# EAGLE library part ULN2803ADW (library m1dst)
Darlington transistor array
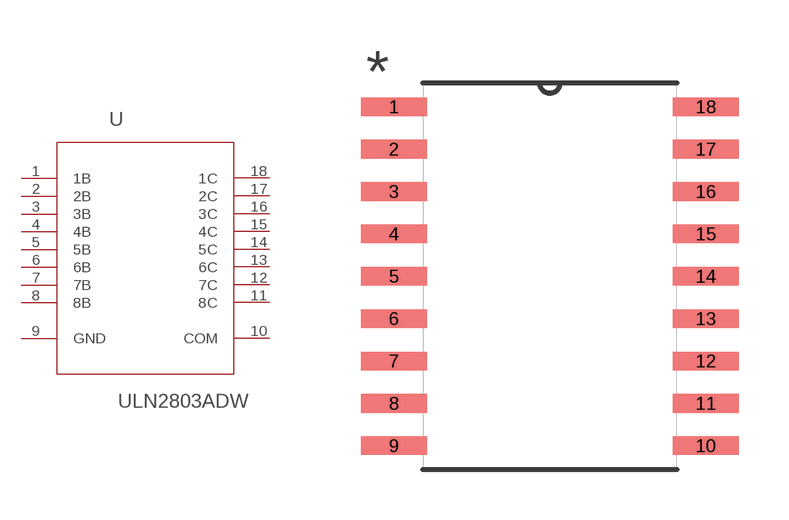
[diagram p8: symbol with the pads of SOIC127P1030X265-18N; footprint SOIC127P1030X265-18N]

Designator prefix U

## ULN2803ADW (MPN: ULN2803ADW; OC_FARNELL: 1652419; OC_NEWARK: 69K0711; PACKAGE: SOIC-18; SUPPLIER: TEXAS INSTRUMENTS)  [SOIC127P1030X265-18N]
1  1B  in
2  2B  in
3  3B  in
4  4B  in
5  5B  in
6  6B  in
7  7B  in
8  8B  in
9  GND  pas
10  COM  out
11  8C  out
12  7C  out
13  6C  out
14  5C  out
15  4C  out
16  3C  out
17  2C  out
18  1C  out

## Footprint SOIC127P1030X265-18N (pad centres in mm)
smd 1.981 x 0.559: 1 -4.674,5.08; 2 -4.674,3.81; 3 -4.674,2.54; 4 -4.674,1.27; 5 -4.674,0; 6 -4.674,-1.27; 7 -4.674,-2.54; 8 -4.674,-3.81; 9 -4.674,-5.08; 10 4.674,-5.08; 11 4.674,-3.81; 12 4.674,-2.54; 13 4.674,-1.27; 14 4.674,0; 15 4.674,1.27; 16 4.674,2.54; 17 4.674,3.81; 18 4.674,5.08